# EAGLE library part CH340X (library LARS_409_MC)
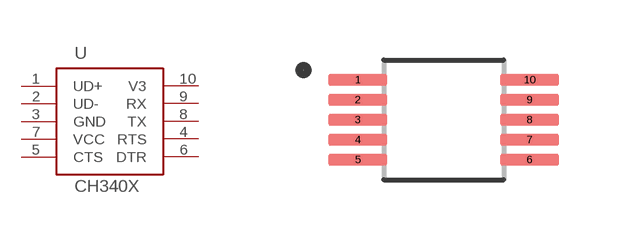
[diagram p47: symbol with the pads of MSOP-10; footprint MSOP-10]

Designator prefix U

## CH340X  [MSOP-10]
1  UD+
2  UD-
3  GND  sup
4  RTS
5  CTS
6  DTR
7  VCC  sup
8  TX  out
9  RX  in
10  V3  pwr

## Footprint MSOP-10 (pad centres in mm)
smd 1.47 x 0.28: 1 -2.15,1; 2 -2.15,0.5; 3 -2.15,0; 4 -2.15,-0.5; 5 -2.15,-1; 6 2.15,-1; 7 2.15,-0.5; 8 2.15,0; 9 2.15,0.5; 10 2.15,1